# Altium footprint library M225320305R.PcbLib: 1 footprints
Each footprint in its own frame and in the unit in brackets; x right, y up, seen from the top. Pads: shape width x height; smd on the part's side, far side on the other; paste and mask are expansions set on the pad; w line width, h text height; cw(c..) or ccw(c..) is an arc to the next point about the centre after c.
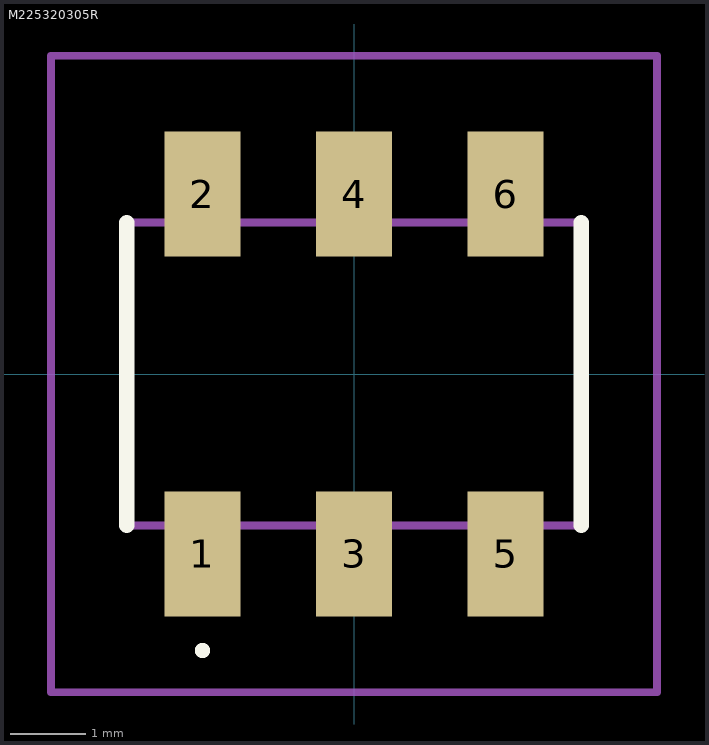
[diagram p0: the footprint, top view; thin cyan lines are the x and y axes]

## M225320305R [mm]
pads (6):
  rect 1x1.65 smd: 1(-2,-2.375) 2(-2,2.375) 3(0,-2.375) 4(0,2.375) 5(2,-2.375) 6(2,2.375)
Top Overlay:
  lines w0.1: -2,-3.7 cw(c-2,-3.65) -2,-3.6 ; -2,-3.7 -2,-3.7 ; -2,-3.7 ccw(c-2,-3.65) -2,-3.6 ; -2,-3.6 -2,-3.6
  lines w0.2: -3,-2 -3,2 ; 3,-2 3,2
Mechanical 15:
  lines w0.1: -3,-2 3,-2 3,2 -3,2 -3,-2
Mechanical 20:
  lines w0.1: -4,-4.2 4,-4.2 4,4.2 -4,4.2 -4,-4.2